# EAGLE library part NMOS2MSOP8 (library zetex)
Dual MOS FET
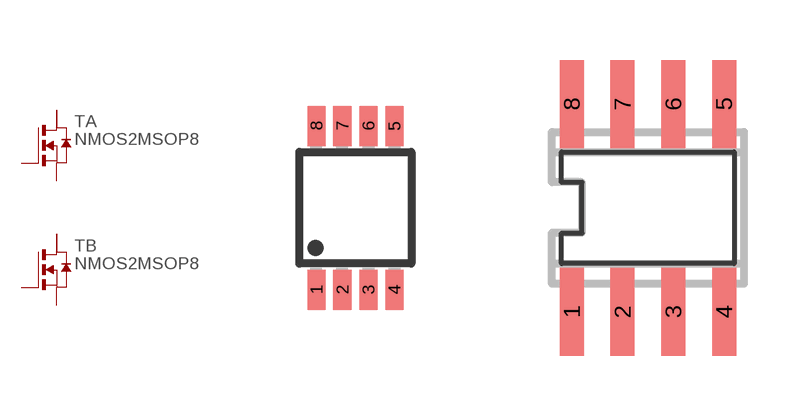
[diagram p5: symbol with the pads of MSOP8; footprints MSOP8, SO8]

Designator prefix T; gates A=N_MOS2D B=N_MOS2D

## NMOS2MSOP8  [MSOP8]
1  B:D  pas
2  B:D2  pas
3  A:D  pas
4  A:D2  pas
5  A:S  pas
6  A:G  pas
7  B:S  pas
8  B:G  pas

## NMOS2MSOP8SO8  [SO8]
Pads as for MSOP8

## Footprint MSOP8 (pad centres in mm)
Micro Small Outline Package
smd 0.45 x 1: 1 -0.975,-2.05; 2 -0.325,-2.05; 3 0.325,-2.05; 4 0.975,-2.05; 5 0.975,2.05; 6 0.325,2.05; 7 -0.325,2.05; 8 -0.975,2.05

## Footprint SO8 (pad centres in mm)
SMALL OUTLINE INTEGRATED CIRCUIT
smd 0.6 x 2.2: 1 -1.905,-2.6; 2 -0.635,-2.6; 3 0.635,-2.6; 4 1.905,-2.6; 5 1.905,2.6; 6 0.635,2.6; 7 -0.635,2.6; 8 -1.905,2.6